# Altium footprint library mypcblib.PcbLib: 90 footprints (part 3 of 6)
Each footprint in its own frame and in the unit in brackets; x right, y up, seen from the top. Pads: shape width x height; smd on the part's side, far side on the other; paste and mask are expansions set on the pad; w line width, h text height; cw(c..) or ccw(c..) is an arc to the next point about the centre after c.
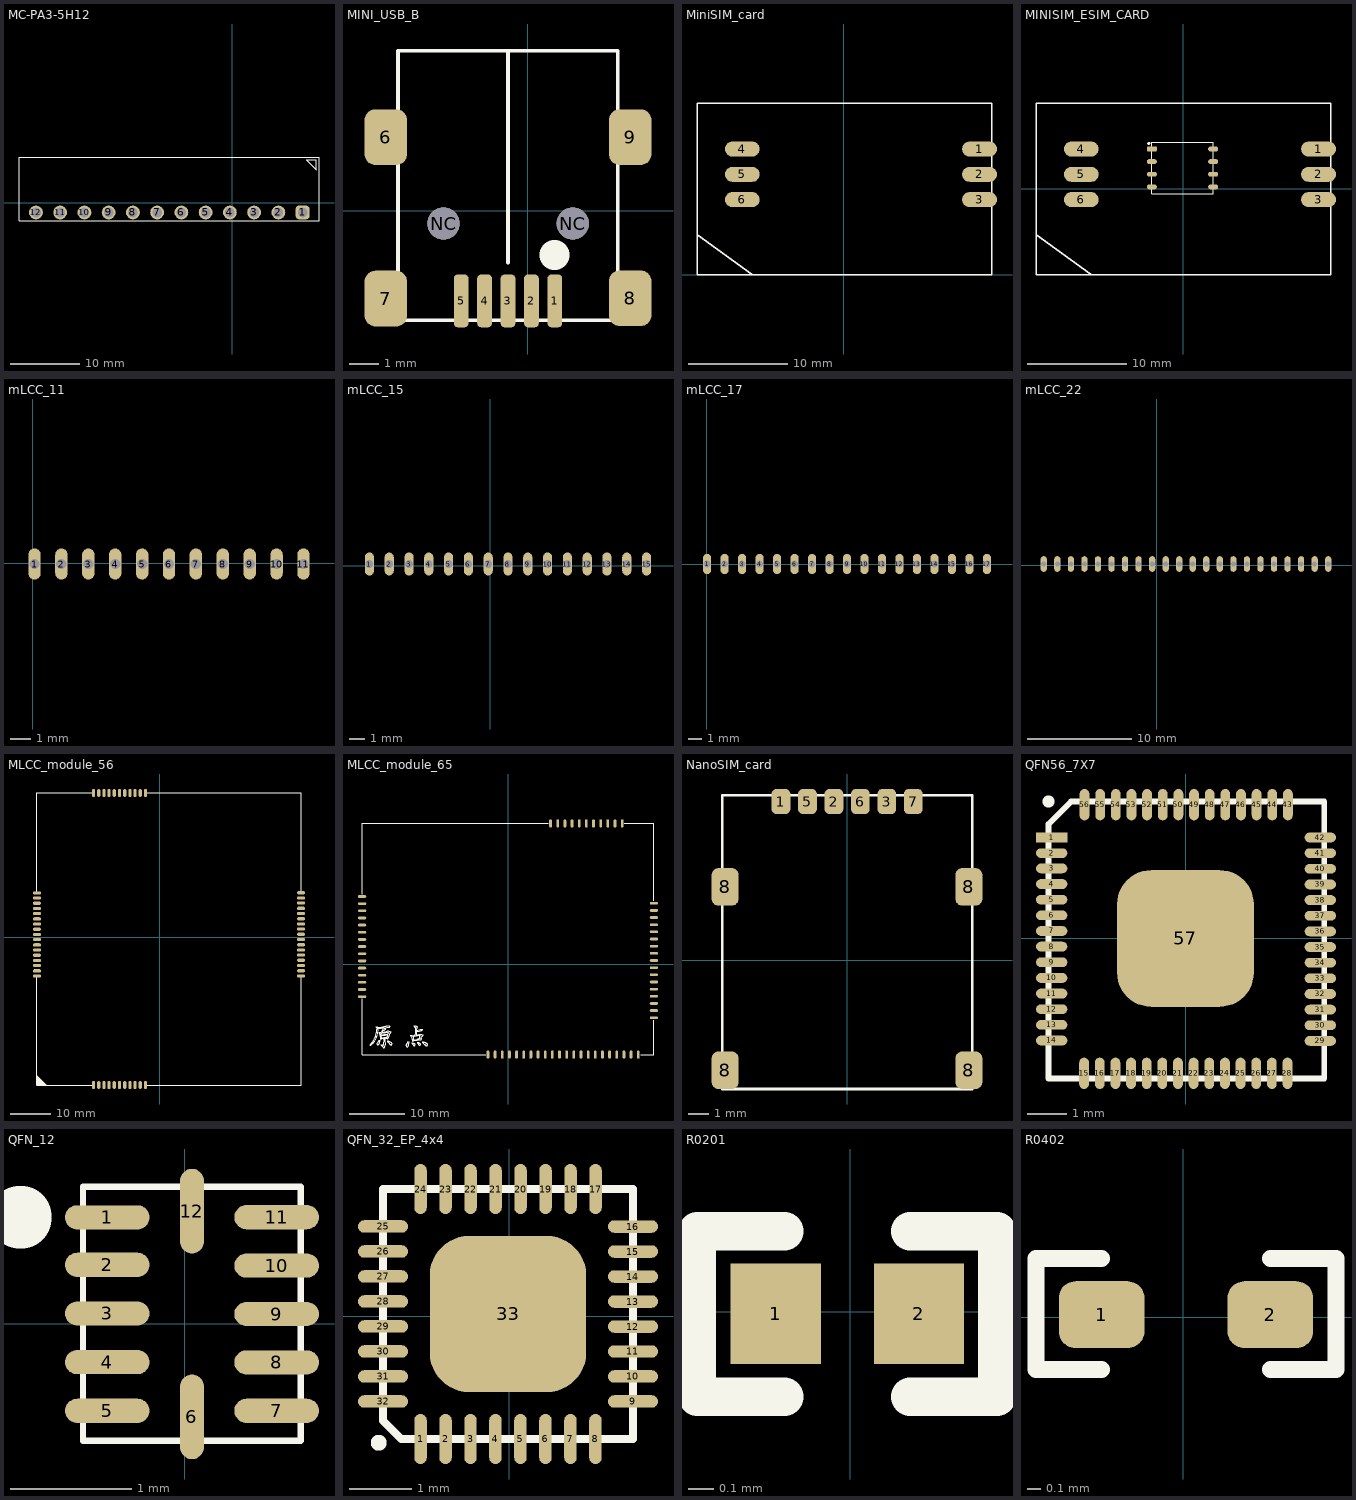
[diagram p2: the footprints below, top view; thin cyan lines are the x and y axes]

## MC-PA3-5H12 [mm]
pads (12):
  rrect50% 2x2 hole 1.4: 1(10.21,-1.38)
  round 2 hole 1.4: 2(6.701,-1.38) 3(3.192,-1.38) 4(-0.317,-1.38) 5(-3.826,-1.38) 6(-7.334,-1.38) 7(-10.843,-1.38) 8(-14.352,-1.38) 9(-17.861,-1.38) 10(-21.37,-1.38) 11(-24.879,-1.38) 12(-28.388,-1.38)
Top Overlay:
  lines w0.127: -30.836,6.616 -30.836,-2.59 12.581,-2.59 12.581,6.616 -30.82,6.616 ; 10.77,6.26 12.21,6.26 12.21,4.82 10.77,6.26

## MINI_USB_B [mm]
pads (11):
  rrect50% 0.5x1.8 smd: 1(0.92,-3.07) 2(0.12,-3.07) 3(-0.68,-3.07) 4(-1.48,-3.07) 5(-2.28,-3.07)
  rrect50% 1.45x1.9 smd: 6(-4.85,2.52) 7(-4.85,-2.99) 8(3.49,-2.98) 9(3.49,2.52)
  round 1.1 hole 1.1: NC(-2.88,-0.43) NC(1.53,-0.43)
Top Overlay:
  circle w0.127: c1.518,-0.431 r0.45
  circle w0.127: c-2.882,-0.431 r0.45
  circle w1: c0.91,-1.5 r0.01
  lines w0.127: -0.682,-1.77 -0.682,5.469 ; -4.432,-3.731 3.068,-3.731 3.068,5.469 -4.432,5.469 -4.432,-3.731
3D body "User Library-usb_mini_smd.STEP": height 4.14, standoff -0.95, extent -5.63,-3.71 4.27,5.49

## MiniSIM_card [mm]
pads (6):
  oval 3.5x1.5 smd: 1(13.652,12.636) 2(13.652,10.096) 3(13.652,7.556) 4(-10.16,12.636) 5(-10.16,10.096) 6(-10.16,7.556)
Top Overlay:
  lines w0.127: -14.707,4.052 -9.207,0.064 ; -14.707,0.025 14.893,0.025 14.893,17.225 -14.707,17.225 -14.707,0.025

## MINISIM_ESIM_CARD [mm]
pads (14):
  oval 1x0.5 smd: 1(2.98,4) 2(2.98,2.73) 3(2.98,1.46) 6(-3.17,1.46) NC(-3.17,0.19) NC(-3.17,2.73) NC(2.98,0.19)
  oval 3.5x1.5 smd: 1(13.56,3.991) 2(13.56,1.451) 3(13.56,-1.089) 4(-10.253,3.991) 5(-10.253,1.451) 6(-10.253,-1.089)
  rrect50% 1x0.5 smd: 4(-3.17,4)
Top Overlay:
  circle w0.127: c-3.48,4.56 r0.085
  lines w0.08: -3.17,-0.48 -3.17,4.67 2.98,4.67 2.98,-0.48 -3.17,-0.48
  lines w0.127: -14.8,-4.593 -9.3,-8.582 ; -14.8,-8.62 -14.8,8.58 14.8,8.58 14.8,-8.62 -14.8,-8.62

## mLCC_11 [mm]
pads (11):
  oval 0.6x1.5 hole 0.5: 1(0.09,-0.04) 2(1.39,-0.04) 3(2.69,-0.04) 4(3.99,-0.04) 5(5.29,-0.04) 6(6.59,-0.04) 7(7.89,-0.04) 8(9.19,-0.04) 9(10.49,-0.04) 10(11.79,-0.04) 11(13.09,-0.04)

## mLCC_15 [mm]
pads (15):
  oval 0.6x1.5 hole 0.5: 1(-7.94,0.11) 2(-6.64,0.11) 3(-5.34,0.11) 4(-4.04,0.11) 5(-2.74,0.11) 6(-1.44,0.11) 7(-0.14,0.11) 8(1.16,0.11) 9(2.46,0.11) 10(3.76,0.11) 11(5.06,0.11) 12(6.36,0.11) 13(7.66,0.11) 14(8.96,0.11) 15(10.26,0.11)

## mLCC_17 [mm]
pads (17):
  oval 0.6x1.5 hole 0.5: 1(0.01,0.02) 2(1.31,0.02) 3(2.61,0.02) 4(3.91,0.02) 5(5.21,0.02) 6(6.51,0.02) 7(7.81,0.02) 8(9.11,0.02) 9(10.41,0.02) 10(11.71,0.02) 11(13.01,0.02) 12(14.31,0.02) 13(15.61,0.02) 14(16.91,0.02) 15(18.21,0.02) 16(19.51,0.02) 17(20.81,0.02)

## mLCC_22 [mm]
pads (22):
  oval 0.6x1.5 hole 0.5: 1(-10.85,0.13) 2(-9.55,0.13) 3(-8.25,0.13) 4(-6.95,0.13) 5(-5.65,0.13) 6(-4.35,0.13) 7(-3.05,0.13) 8(-1.75,0.13) 9(-0.45,0.13) 10(0.85,0.13) 11(2.15,0.13) 12(3.45,0.13) 13(4.75,0.13) 14(6.05,0.13) 15(7.35,0.13) 16(8.65,0.13) 17(9.95,0.13) 18(11.25,0.13) 19(12.55,0.13) 20(13.85,0.13) 21(15.15,0.13) 22(16.45,0.13)

## MLCC_module_56 [mm]
pads (56):
  oval 0.8x2 smd: 1(-16.565,-36.976) 2(-15.265,-36.976) 3(-13.965,-36.976) 4(-12.665,-36.976) 5(-11.365,-36.976) 6(-10.065,-36.976) 7(-8.765,-36.976) 8(-7.465,-36.976) 9(-6.165,-36.976) 10(-4.865,-36.976) 11(-3.565,-36.976) 29(-3.565,36.049) 30(-4.865,36.049) 31(-6.165,36.049) 32(-7.465,36.049) 33(-8.765,36.049) 34(-10.065,36.049) 35(-11.365,36.049) 36(-12.665,36.049) 37(-13.965,36.049) 38(-15.265,36.049) 39(-16.565,36.049)
  oval 2x0.8 smd: 12(35.334,-9.694) 13(35.334,-8.394) 14(35.334,-7.094) 15(35.334,-5.794) 16(35.334,-4.494) 17(35.334,-3.194) 18(35.334,-1.894) 19(35.334,-0.594) 20(35.334,0.706) 21(35.334,2.006) 22(35.334,3.306) 23(35.334,4.606) 24(35.334,5.905) 25(35.334,7.205) 26(35.334,8.505) 27(35.334,9.805) 28(35.334,11.105) 40(-30.706,11.075) 41(-30.706,9.775) 42(-30.706,8.475) 43(-30.706,7.175) 44(-30.706,5.876) 45(-30.706,4.576) 46(-30.706,3.276) 47(-30.706,1.976) 48(-30.706,0.66) 49(-30.706,-0.624) 50(-30.706,-1.924) 51(-30.706,-3.224) 52(-30.706,-4.524) 53(-30.706,-5.824) 54(-30.706,-7.124) 55(-30.706,-8.424) 56(-30.706,-9.724)
Top Overlay:
  region: -30.706,-34.476 -30.706,-36.976 -28.206,-36.976
  lines w0.127: -30.706,-9.974 -30.706,-36.976 -16.815,-36.976 ; -30.706,11.325 -30.706,36.049 -16.815,36.049 ; -3.316,-36.976 35.334,-36.976 35.334,-9.944 ; -3.316,36.049 35.334,36.049 35.334,11.355

## MLCC_module_65 [mm]
pads (65):
  oval 0.5x1.5 smd: 1(-3.66,-16.4) 2(-2.36,-16.4) 3(-1.06,-16.4) 4(0.24,-16.4) 5(1.54,-16.4) 6(2.84,-16.4) 7(4.14,-16.4) 8(5.44,-16.4) 9(6.74,-16.4) 10(8.04,-16.4) 11(9.34,-16.4) 12(10.64,-16.4) 13(11.94,-16.4) 14(13.24,-16.4) 15(14.54,-16.4) 16(15.84,-16.4) 17(17.14,-16.4) 18(18.44,-16.4) 19(19.74,-16.4) 20(21.04,-16.4) 21(22.34,-16.4) 22(23.64,-16.4) 40(20.72,25.59) 41(19.42,25.59) 42(18.12,25.59) 43(16.82,25.59) 44(15.52,25.59) 45(14.22,25.59) 46(12.92,25.59) 47(11.62,25.59) 48(10.32,25.59) 49(9.02,25.59) 50(7.72,25.59)
  oval 1.5x0.5 smd: 23(26.48,-9.71) 24(26.48,-8.41) 25(26.48,-7.11) 26(26.48,-5.81) 27(26.48,-4.51) 28(26.48,-3.21) 29(26.48,-1.91) 30(26.48,-0.61) 31(26.48,0.69) 32(26.48,1.99) 33(26.48,3.29) 34(26.48,4.59) 35(26.48,5.89) 36(26.48,7.19) 37(26.48,8.49) 38(26.48,9.79) 39(26.48,11.09) 51(-26.51,12.32) 52(-26.51,11.02) 53(-26.51,9.72) 54(-26.51,8.42) 55(-26.51,7.12) 56(-26.51,5.82) 57(-26.51,4.52) 58(-26.51,3.22) 59(-26.51,1.92) 60(-26.51,0.62) 61(-26.51,-0.68) 62(-26.51,-1.98) 63(-26.51,-3.28) 64(-26.51,-4.58) 65(-26.51,-5.88)
Top Overlay:
  drawing of 965 lines, arcs and shapes, not listed

## NanoSIM_card [mm]
pads (10):
  rrect50% 0.9x1.2 smd: 1(-3.176,7.614) 2(-0.636,7.614) 3(1.904,7.614) 5(-1.906,7.614) 6(0.634,7.614) 7(3.174,7.614)
  rrect50% 1.3x1.8 smd: 8(-5.856,-5.286) 8(-5.856,3.514) 8(5.844,-5.286) 8(5.844,3.514)
Top Overlay:
  lines w0.127: -6.001,-6.187 -6.001,7.913 5.998,7.913 5.998,-6.187 -6.001,-6.187

## QFN56_7X7 [mm]
pads (57):
  rect 0.8x0.25 smd: 1(-3.43,2.58)
  oval 0.8x0.25 smd: 2(-3.43,2.18) 3(-3.43,1.79) 4(-3.43,1.39) 5(-3.43,0.99) 6(-3.43,0.59) 7(-3.43,0.19) 8(-3.43,-0.21) 9(-3.43,-0.61) 10(-3.43,-1.01) 11(-3.43,-1.41) 12(-3.43,-1.81) 13(-3.43,-2.21) 14(-3.43,-2.61) 29(3.44,-2.62) 30(3.44,-2.22) 31(3.44,-1.82) 32(3.44,-1.42) 33(3.44,-1.02) 34(3.44,-0.62) 35(3.44,-0.22) 36(3.44,0.18) 37(3.44,0.58) 38(3.44,0.98) 39(3.44,1.38) 40(3.44,1.78) 41(3.44,2.18) 42(3.44,2.58)
  oval 0.25x0.8 smd: 15(-2.6,-3.45) 16(-2.2,-3.45) 17(-1.8,-3.45) 18(-1.4,-3.45) 19(-1,-3.45) 20(-0.6,-3.45) 21(-0.2,-3.45) 22(0.2,-3.45) 23(0.6,-3.45) 24(1,-3.45) 25(1.4,-3.45) 26(1.8,-3.45) 27(2.2,-3.45) 28(2.6,-3.45) 43(2.61,3.42) 44(2.21,3.42) 45(1.81,3.42) 46(1.41,3.42) 47(1.01,3.42) 48(0.61,3.42) 49(0.21,3.42) 50(-0.19,3.42) 51(-0.59,3.42) 52(-0.99,3.42) 53(-1.39,3.42) 54(-1.79,3.42) 55(-2.19,3.42) 56(-2.59,3.42)
  rrect50% 3.5x3.5 smd: 57(-0.009,-0.001)
Top Overlay:
  circle w0.152: c-3.51,3.5 r0.078
  lines w0.152: 3.54,3.47 3.54,-3.58 -3.51,-3.58 -3.51,2.92 -2.93,3.5 3.54,3.5

## QFN_12 [mm]
pads (12):
  oval 0.7x0.2 smd: 1(-0.64,0.879) 2(-0.64,0.487) 3(-0.64,0.084) 4(-0.64,-0.318) 5(-0.64,-0.72) 7(0.76,-0.72) 8(0.76,-0.32) 9(0.76,0.08) 10(0.76,0.48) 11(0.76,0.88)
  oval 0.2x0.7 smd: 6(0.06,-0.77) 12(0.06,0.93)
Top Overlay:
  circle w0.5: c-1.36,0.88 r0.01
  lines w0.05: -0.841,-0.968 -0.841,1.132 0.959,1.132 0.959,-0.968 -0.841,-0.968

## QFN_32_EP_4x4 [mm]
pads (33):
  oval 0.2x0.8 smd mask+0.1: 1(-1.422,-1.96) 2(-1.022,-1.96) 3(-0.622,-1.96) 4(-0.222,-1.96) 5(0.178,-1.96) 6(0.578,-1.96) 7(0.978,-1.96) 8(1.378,-1.96) 17(1.378,2.04) 18(0.978,2.04) 19(0.578,2.04) 20(0.178,2.04) 21(-0.222,2.04) 22(-0.622,2.04) 23(-1.022,2.04) 24(-1.422,2.04)
  oval 0.8x0.2 smd mask+0.1: 9(1.978,-1.36) 10(1.978,-0.96) 11(1.978,-0.56) 12(1.978,-0.16) 13(1.978,0.24) 14(1.978,0.64) 15(1.978,1.04) 16(1.978,1.44) 25(-2.022,1.44) 26(-2.022,1.04) 27(-2.022,0.64) 28(-2.022,0.24) 29(-2.022,-0.16) 30(-2.022,-0.56) 31(-2.022,-0.96) 32(-2.022,-1.36)
  rrect50% 2.5x2.5 smd mask+0.1: 33(-0.022,0.04)
Top Overlay:
  circle w0.127: c-2.09,-2.02 r0.064
  lines w0.127: -2.022,-1.668 -2.022,2.04 1.978,2.04 1.978,-1.96 -1.73,-1.96 -2.022,-1.668

## R0201 [mm]
pads (2):
  rect 0.36x0.4 smd mask+0.051: 1(-0.296,-0.008) 2(0.274,-0.008)
Top Overlay:
  lines w0.152: -0.261,-0.338 -0.61,-0.338 -0.61,0.32 -0.261,0.32 ; 0.239,-0.338 0.584,-0.338 0.584,0.32 0.239,0.32
3D body "User Library-RES_0603-0201.STEP": height 0.34, standoff 0, extent -0.351,-0.173 0.329,0.157

## R0402 [mm]
pads (2):
  rrect50% 0.64x0.5 smd: 1(-0.61,0.02) 2(0.65,0.02)
Top Overlay:
  lines w0.127: -0.61,-0.39 -1.1,-0.39 -1.1,0.44 -0.61,0.44 ; 0.65,-0.39 1.14,-0.39 1.14,0.44 0.65,0.44
3D body "User Library-CR1005-0402.STEP": height 0.35, standoff 0, extent -0.49,-0.24 0.51,0.26